# Altium integrated library TMC2209-LA.IntLib: 1 symbol
Pins are listed as number, name and electrical type; pins without a type are passive.

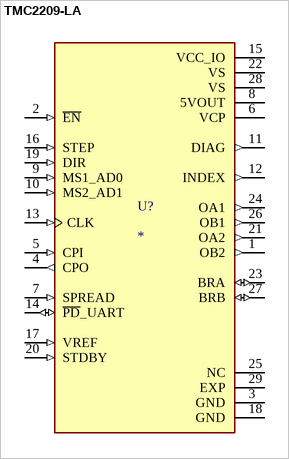
[diagram p0: symbol TMC2209-LA]

## TMC2209-LA
designator U?
Bipolar Motor Driver Power MOSFET Step/Direction, UART 28-QFN (5x5); MF: Maxim Integrated Products; MP: TMC2209-LA; SnapEDA_Link: https://www.snapeda.com/parts/TMC2209-LA/Maxim+Integrated/view-part/?ref=snap; Package: None; Value: *; Check_prices: https://www.snapeda.com/parts/TMC2209-LA/Maxim+Integrated/view-part/?ref=eda
footprint QFN50P500X500X90-29N
pins: 1 OB2 (out), 2 ~{EN} (in), 3 GND (power), 4 CPO (out), 5 CPI (in), 6 VCP (power), 7 SPREAD (in), 8 5VOUT (power), 9 MS1_AD0 (in), 10 MS2_AD1 (in), 11 DIAG (out), 12 INDEX (out), 13 CLK (in), 14 ~{PD}_UART (io), 15 VCC_IO (power), 16 STEP (in), 17 VREF (in), 18 GND (power), 19 DIR (in), 20 STDBY (in), 21 OA2 (out), 22 VS (power), 23 BRA (io), 24 OA1 (out), 25 NC, 26 OB1 (out), 27 BRB (io), 28 VS (power), 29 EXP (power)